# Altium schematic symbol library AltiumV15.SchLib: 1 symbol
Pins are listed as number, name and electrical type; pins without a type are passive.

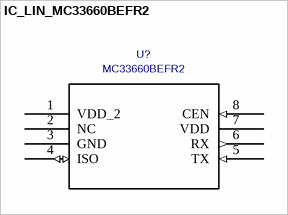
[diagram p0: symbol IC_LIN_MC33660BEFR2]

## IC_LIN_MC33660BEFR2
designator U?, comment MC33660BEFR2
Mfr_Name: NXP; Value: MC33660BEFR2; Manufacturer_Part_Number: MC33660BEFR2
footprint 8-SOIC-3.90MM (8-Pin SOIC 3.90mm)
pins: 1 VDD_2 (power), 2 NC, 3 GND (power), 4 ISO (io), 5 TX (in), 6 RX (out), 7 VDD (power), 8 CEN (in)